# EAGLE library part BMA180 (library 000001)
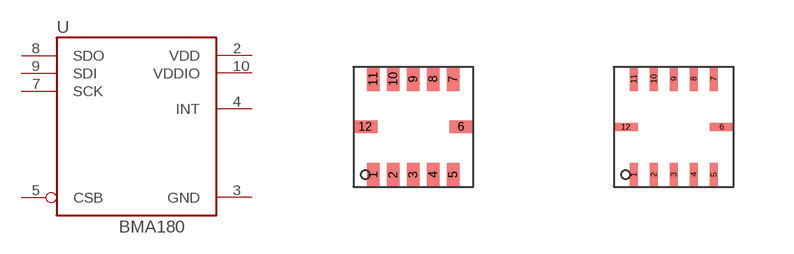
[diagram p131: symbol with the pads of LGA12_3X3; footprints LGA12_3X3, LGA12_3X3_PRINT]

Designator prefix -

## BMA180  [LGA12_3X3]
2  VDD  pwr
3  GND
4  INT  out
5  CSB  in
7  SCK  in
8  SDO
9  SDI
10  VDDIO  pwr

## BMA180PRINT  [LGA12_3X3_PRINT]
Pads as for LGA12_3X3

## Footprint LGA12_3X3 (pad centres in mm)
smd 0.32 x 0.6: 1 -1,-1.2; 2 -0.5,-1.2; 3 0,-1.2; 4 0.5,-1.2; 5 1,-1.2; 7 1,1.2; 8 0.5,1.2; 9 0,1.2; 10 -0.5,1.2; 11 -1,1.2
smd 0.6 x 0.32: 6 1.2,0; 12 -1.2,0

## Footprint LGA12_3X3_PRINT (pad centres in mm)
smd 0.2 x 0.6: 1 -1,-1.2; 2 -0.5,-1.2; 3 0,-1.2; 4 0.5,-1.2; 5 1,-1.2; 7 1,1.2; 8 0.5,1.2; 9 0,1.2; 10 -0.5,1.2; 11 -1,1.2
smd 0.6 x 0.2: 6 1.2,0; 12 -1.2,0